# Altium schematic symbol library CSD17575Q3T.SchLib: 1 symbol
Pins are listed as number, name and electrical type; pins without a type are passive.

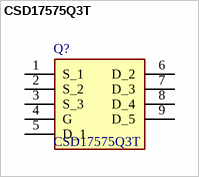
[diagram p0: symbol CSD17575Q3T]

## CSD17575Q3T
designator Q?
30V, N ch NexFET MOSFET, single SON3x3, 3.2mOhm; Manufacturer_Name: Texas Instruments; Geometry.Height: 1.1mm; Mouser Part Number: 595-CSD17575Q3T; Mouser Price/Stock: https://www.mouser.co.uk/ProductDetail/Texas-Instruments/CSD17575Q3T?qs=1MXlzafEN3%252BV4dVr3K7EZA%3D%3D; Manufacturer_Part_Number: CSD17575Q3T; Datasheet Link: http://www.ti.com/lit/gpn/CSD17575Q3
footprint CSD17575Q3T
pins: 1 S_1, 2 S_2, 3 S_3, 4 G, 5 D_1, 6 D_2, 7 D_3, 8 D_4, 9 D_5